# EAGLE library part OPA1678 (library wb-opamps)
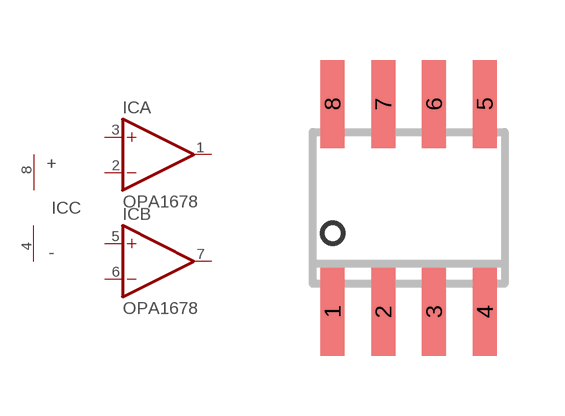
[diagram p0: symbol with the pads of SO08; footprint SO08]

Designator prefix IC; gates A=TYP-OP B=TYP-OP C=TYP-PWR

## OPA1678S  [SO08]
1  A:OUT  out
2  A:INVERTING(-)  in
3  A:NON-INVERTING(+)  in
4  C:V-  pwr
5  B:NON-INVERTING(+)  in
6  B:INVERTING(-)  in
7  B:OUT  out
8  C:V+  pwr

## Footprint SO08 (pad centres in mm)
smd 0.6 x 2.2: 1 -1.905,-2.6; 2 -0.635,-2.6; 3 0.635,-2.6; 4 1.905,-2.6; 5 1.905,2.6; 6 0.635,2.6; 7 -0.635,2.6; 8 -1.905,2.6